# Altium schematic symbol library BCV61C.Schlib: 1 symbol
Pins are listed as number, name and electrical type; pins without a type are passive.

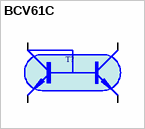
[diagram p0: symbol BCV61C]

## BCV61C
designator T?
SOT143   30V 0.1A h 420-800 100MHz (BCV62C)
pins: 1 C2-B12, 2 C1 (oc), 3 E1 (oe), 4 E2 (oe)
1 alternate drawing of the same symbol